# EAGLE library part 68712414522 (library BlueHome)
WR-FPC 0.5mm ZIF Connector Bottom 24pin Wurth Elektronik 687 Series 0.5mm Pitch 24 Way Straight SMT FPC Connector Source: Datasheet <https://componentsearchengine.com/Datasheets/1/68712414522.pdf>
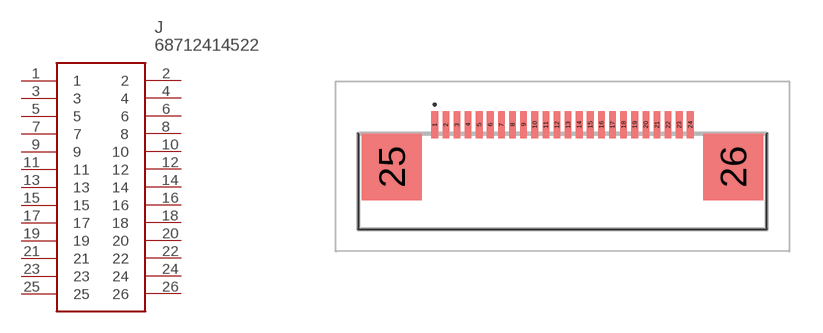
[diagram p3: symbol with the pads of 68712414522; footprint 68712414522]

Designator prefix J

## 68712414522 (DESCRIPTION: WR-FPC 0.5mm ZIF Connector Bottom 24pin Wurth Elektronik 687 Series 0.5mm Pitch 24 Way Straight SMT FPC Connector; HEIGHT: 2mm; MANUFACTURER_NAME: Wurth Elektronik; MANUFACTURER_PART_NUMBER: 68712414522; MOUSER_PART_NUMBER: 710-68712414522)  [68712414522]
1  1
2  2
3  3
4  4
5  5
6  6
7  7
8  8
9  9
10  10
11  11
12  12
13  13
14  14
15  15
16  16
17  17
18  18
19  19
20  20
21  21
22  22
23  23
24  24
25  25
26  26

## Footprint 68712414522 (pad centres in mm)
68712414522
smd 0.3 x 1.2: 1 -5.75,1.875; 2 -5.25,1.875; 3 -4.75,1.875; 4 -4.25,1.875; 5 -3.75,1.875; 6 -3.25,1.875; 7 -2.75,1.875; 8 -2.25,1.875; 9 -1.75,1.875; 10 -1.25,1.875; 11 -0.75,1.875; 12 -0.25,1.875; 13 0.25,1.875; 14 0.75,1.875; 15 1.25,1.875; 16 1.75,1.875; 17 2.25,1.875; 18 2.75,1.875; 19 3.25,1.875; 20 3.75,1.875; 21 4.25,1.875; 22 4.75,1.875; 23 5.25,1.875; 24 5.75,1.875
smd 2.7 x 3: 25 -7.68,-0.025; 26 7.68,-0.025